# Altium footprint library msp430g2553-142.PcbLib: 18 footprints (part 2 of 2)
Each footprint in its own frame and in the unit in brackets; x right, y up, seen from the top. Pads: shape width x height; smd on the part's side, far side on the other; paste and mask are expansions set on the pad; w line width, h text height; cw(c..) or ccw(c..) is an arc to the next point about the centre after c.
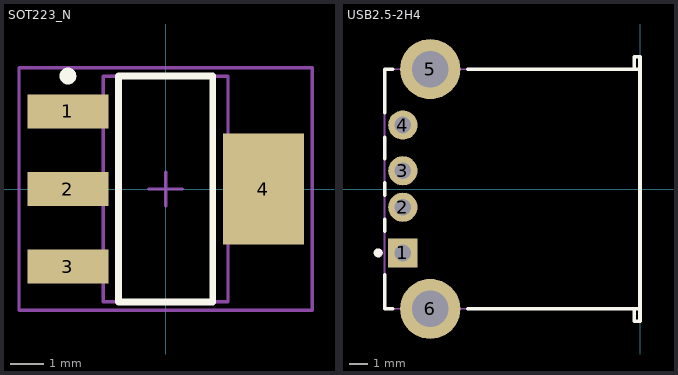
[diagram p1: the footprints below, top view; thin cyan lines are the x and y axes]

## SOT223_N [mm] "SOT223, 4-Leads, Body 6.5x3.5mm, Pitch 2.3mm, Lead Span 7mm, IPC Medium Density"
height 1.7
pads (4):
  rect 2.4x1 smd: 1(-2.9,2.3) 2(-2.9,0) 3(-2.9,-2.3)
  rect 2.4x3.3 smd: 4(2.9,0)
Top Overlay:
  circle w0.25: c-2.9,3.35 r0.125
  lines w0.2: -1.4,-3.35 1.4,-3.35 1.4,3.35 -1.4,3.35 -1.4,-3.35
Mechanical 13:
  lines w0.1: -1.85,-3.35 1.85,-3.35 1.85,3.35 -1.85,3.35 -1.85,-3.35
Mechanical 15:
  lines w0.1: -0.5,0 0.5,0 ; 0,-0.5 0,0.5 ; -4.35,-3.6 4.35,-3.6 4.35,3.6 -4.35,3.6 -4.35,-3.6
3D body: height 1.7, standoff 0, extent -1.85,-3.35 1.85,3.35

## USB2.5-2H4 [mm] "Connector; USB1.1, Series A, Reverse Type, Thru-Hole; 4 Position; Right Angle"
height 6.5
pads (6):
  rect 1.6x1.6 hole 0.92: 1(-13,-3.5)
  round 1.6 hole 0.92: 2(-13,-1) 3(-13,1) 4(-13,3.5)
  round 3.3 hole 2: 5(-11.5,6.57) 6(-11.5,-6.57)
Top Overlay:
  circle w0.25: c-14.35,-3.5 r0.125
  lines w0.2: -14,-4.7 -14,-6.565 -13.55,-6.565 ; -14,-2.3 -14,-1.67 ; -14,-0.33 -14,0.33 ; -14,1.67 -14,2.83 ; -14,4.17 -14,6.565 -13.55,6.565 ; -9.45,-6.565 0,-6.565 ; -9.45,6.565 0,6.565 ; -0.32,-6.565 -0.32,-7.25 0,-7.25 0,7.25 -0.32,7.25 -0.32,6.565
Mechanical 1:
  lines w0.1: 0,-7.25 0,7.25
  text "PCB Edge" at -0.336,-6.303 h0.25
Mechanical 13:
  lines w0.1: -14,-6.565 -14,6.565 -0.32,6.565 -0.32,7.25 0,7.25 0,-7.25 -0.32,-7.25 -0.32,-6.565 -14,-6.565
3D body: height 6.5, standoff 0, extent -13.999,-7.249 -0.001,7.249